# EAGLE library part LTC2640 (library IC)
Single 12-/10-/8-Bit SPI Vout DACs with 10ppm/c Reference
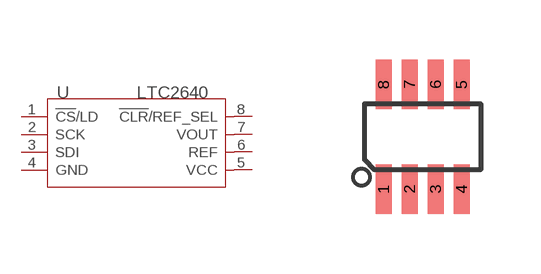
[diagram p187: symbol with the pads of TSOT-23-8; footprint TSOT-23-8]

Designator prefix U

## LTC2640  [TSOT-23-8]
1  !CS!/LD
2  SCK
3  SDI
4  GND  sup
5  VCC  sup
6  REF
7  VOUT
8  !CLR!/REF_SEL

## Footprint TSOT-23-8 (pad centres in mm)
smd 0.4 x 1.23: 1 -0.975,-1.31; 2 -0.325,-1.31; 3 0.325,-1.31; 4 0.975,-1.31; 5 0.975,1.31; 6 0.325,1.31; 7 -0.325,1.31; 8 -0.975,1.31